# Altium footprint library QFP50P1200X1200X160-64N.PcbLib: 1 footprints
Each footprint in its own frame and in the unit in brackets; x right, y up, seen from the top. Pads: shape width x height; smd on the part's side, far side on the other; paste and mask are expansions set on the pad; w line width, h text height; cw(c..) or ccw(c..) is an arc to the next point about the centre after c.
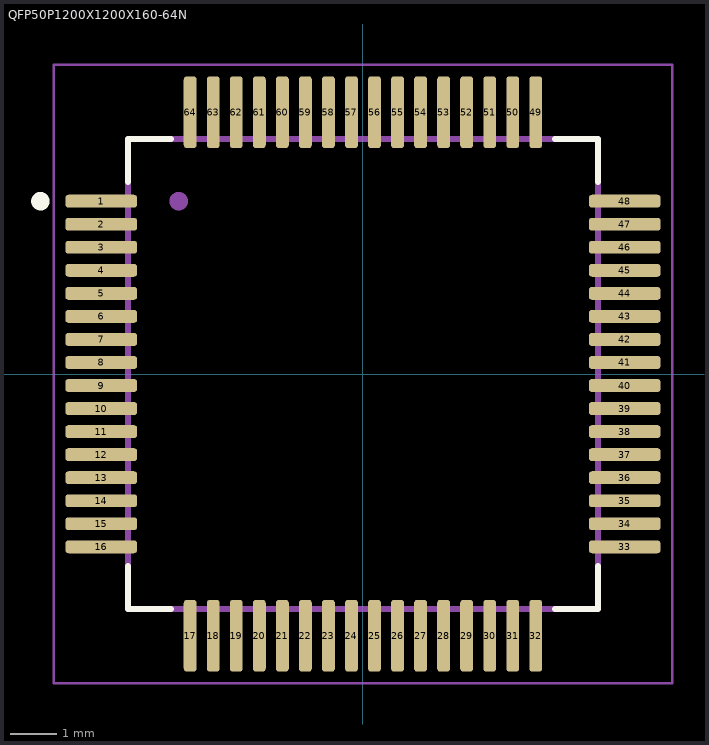
[diagram p0: the footprint, top view; thin cyan lines are the x and y axes]

## QFP50P1200X1200X160-64N [mm]
pads (64):
  rrect50% 1.56x0.28 smd mask+0.04: 1(-5.68,3.75) 2(-5.68,3.25) 3(-5.68,2.75) 4(-5.68,2.25) 5(-5.68,1.75) 6(-5.68,1.25) 7(-5.68,0.75) 8(-5.68,0.25) 9(-5.68,-0.25) 10(-5.68,-0.75) 11(-5.68,-1.25) 12(-5.68,-1.75) 13(-5.68,-2.25) 14(-5.68,-2.75) 15(-5.68,-3.25) 16(-5.68,-3.75) 33(5.68,-3.75) 34(5.68,-3.25) 35(5.68,-2.75) 36(5.68,-2.25) 37(5.68,-1.75) 38(5.68,-1.25) 39(5.68,-0.75) 40(5.68,-0.25) 41(5.68,0.25) 42(5.68,0.75) 43(5.68,1.25) 44(5.68,1.75) 45(5.68,2.25) 46(5.68,2.75) 47(5.68,3.25) 48(5.68,3.75)
  rrect50% 0.28x1.56 smd mask+0.04: 17(-3.75,-5.68) 18(-3.25,-5.68) 19(-2.75,-5.68) 20(-2.25,-5.68) 21(-1.75,-5.68) 22(-1.25,-5.68) 23(-0.75,-5.68) 24(-0.25,-5.68) 25(0.25,-5.68) 26(0.75,-5.68) 27(1.25,-5.68) 28(1.75,-5.68) 29(2.25,-5.68) 30(2.75,-5.68) 31(3.25,-5.68) 32(3.75,-5.68) 49(3.75,5.68) 50(3.25,5.68) 51(2.75,5.68) 52(2.25,5.68) 53(1.75,5.68) 54(1.25,5.68) 55(0.75,5.68) 56(0.25,5.68) 57(-0.25,5.68) 58(-0.75,5.68) 59(-1.25,5.68) 60(-1.75,5.68) 61(-2.25,5.68) 62(-2.75,5.68) 63(-3.25,5.68) 64(-3.75,5.68)
Top Overlay:
  circle w0.2: c-7,3.75 r0.1
  lines w0.127: -5.1,-4.17 -5.1,-5.1 -4.17,-5.1 ; -5.1,4.17 -5.1,5.1 -4.17,5.1 ; 4.17,-5.1 5.1,-5.1 5.1,-4.17 ; 4.17,5.1 5.1,5.1 5.1,4.17
Mechanical 13:
  circle w0.2: c-4,3.75 r0.1
  lines w0.127: -5.1,-5.1 -5.1,5.1 5.1,5.1 5.1,-5.1 -5.1,-5.1
Mechanical 15:
  lines w0.05: -6.71,-6.71 -6.71,6.71 6.71,6.71 6.71,-6.71 -6.71,-6.71
3D body "STM32F446RET6--3DModel-STEP-56544.STEP": height 1.53, standoff -0.07, extent -6,-6 6,6